# EAGLE library part P82B96 (library i2c_epccs)
Dual Bidirectional bus buffer for I2C
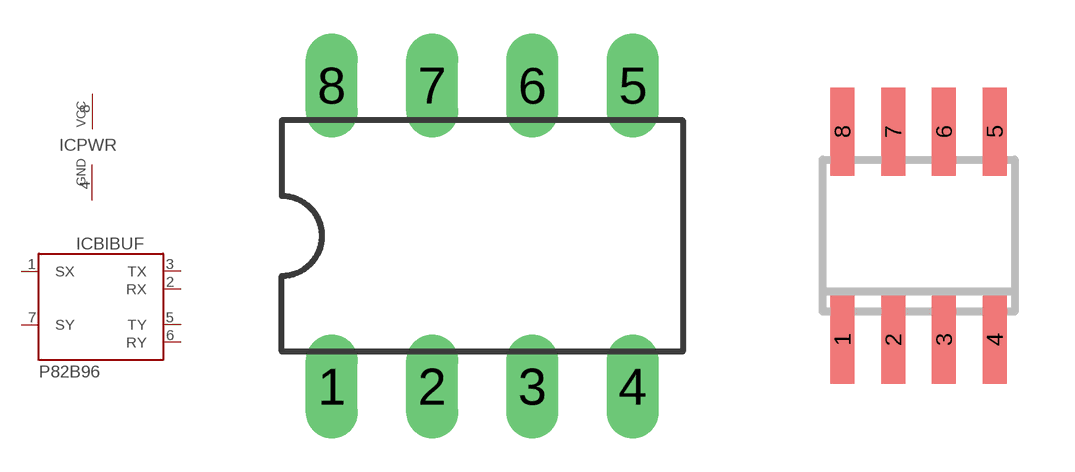
[diagram p17: symbol with the pads of DIL08; footprints DIL08, SO08]

Designator prefix IC; gates BIBUF=P82B96 PWR=PWRN

## P82B96PN  [DIL08]
1  BIBUF:SX
2  BIBUF:RX  in
3  BIBUF:TX  out
4  PWR:GND  pwr
5  BIBUF:TY  out
6  BIBUF:RY  in
7  BIBUF:SY
8  PWR:VCC  pwr

## P82B96TD  [SO08]
Pads as for DIL08

## Footprint DIL08 (pad centres in mm)
drill 0.813 long: 1 -3.81,-3.81; 2 -1.27,-3.81; 3 1.27,-3.81; 4 3.81,-3.81; 5 3.81,3.81; 6 1.27,3.81; 7 -1.27,3.81; 8 -3.81,3.81

## Footprint SO08 (pad centres in mm)
smd 0.6 x 2.2: 1 -1.905,-2.6; 2 -0.635,-2.6; 3 0.635,-2.6; 4 1.905,-2.6; 5 1.905,2.6; 6 0.635,2.6; 7 -0.635,2.6; 8 -1.905,2.6